# Altium schematic symbol library SN74HC164DR.SchLib: 1 symbol
Pins are listed as number, name and electrical type; pins without a type are passive.

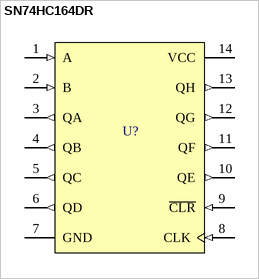
[diagram p0: symbol SN74HC164DR]

## SN74HC164DR
designator U?
Counter Shift Registers 8-Bit Parallel-Out Serial Shift Register
pins: 1 A (in), 2 B (in), 3 QA (out), 4 QB (out), 5 QC (out), 6 QD (out), 7 GND (power), 8 CLK (in), 9 ~{CLR} (in), 10 QE (out), 11 QF (out), 12 QG (out), 13 QH (out), 14 VCC (power)